# Altium footprint library CapCeramic.PcbLib: 13 footprints
Each footprint in its own frame and in the unit in brackets; x right, y up, seen from the top. Pads: shape width x height; smd on the part's side, far side on the other; paste and mask are expansions set on the pad; w line width, h text height; cw(c..) or ccw(c..) is an arc to the next point about the centre after c.
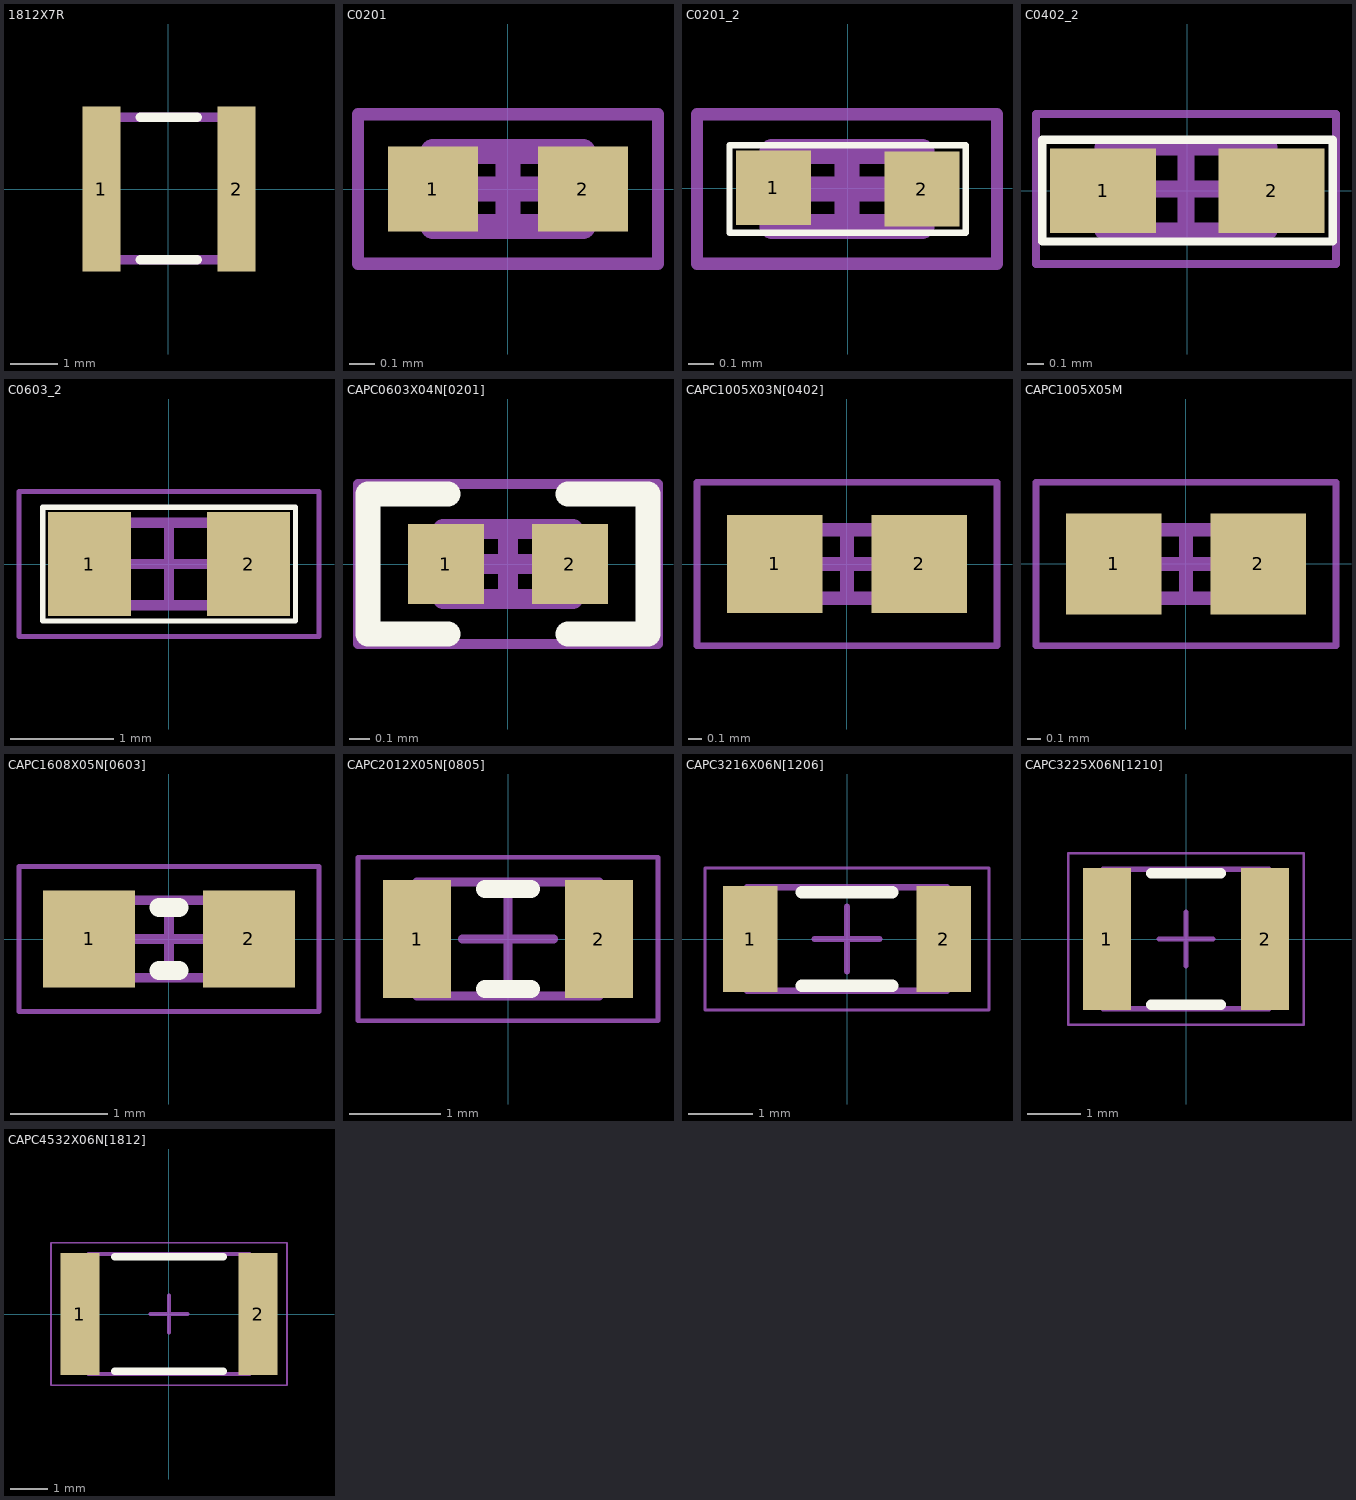
[diagram p0: the footprints below, top view; thin cyan lines are the x and y axes]

## 1812X7R [mil]
pads (2):
  rect 32x138 smd: 1(-56.1,0) 2(57,0)
Top Overlay:
  lines w8: -23.62,-59.06 24,-59.06 ; -23.62,60 24,60
Mechanical 16:
  rectangle: -55.12,-62.99 -43.31,63
  region: 56,63 44,63 44,-62.99 56,-62.99
  lines w8: -43.31,-59.06 44,-59.06 ; -43.31,60 44,60
3D body "CAPC3225X279N EIA 1210.step": height 49.21, standoff -49.21, extent -62.99,-55 62.99,54.84

## C0201 [mm]
pads (2):
  rect 0.36x0.34 smd: 1(-0.3,0) 2(0.3,0)
Mechanical 13:
  lines w0.1: -0.3,-0.15 -0.3,0.15 0.3,0.15 0.3,-0.15 -0.3,-0.15
Mechanical 15:
  lines w0.05: -0.6,-0.3 -0.6,0.3 0.6,0.3 0.6,-0.3 -0.6,-0.3
  lines w0.1: -0.15,0 0.15,0 ; 0,-0.15 0,0.15
3D body "CAPC0603X03L.step": height 0.3, standoff 0, extent -0.3,-0.15 0.3,0.15

## C0201_2 [mm]
pads (2):
  rect 0.3x0.3 smd: 1(-0.297,0.003) 2(0.297,-0.003)
Top Overlay:
  lines w0.025: -0.472,-0.178 0.472,-0.178 0.472,0.173 -0.472,0.173 -0.472,-0.178
Mechanical 13:
  lines w0.1: -0.303,-0.153 0.297,-0.153 0.297,0.147 -0.303,0.147 -0.303,-0.153
Mechanical 15:
  lines w0.05: -0.603,-0.303 0.597,-0.303 0.597,0.297 -0.603,0.297 -0.603,-0.303
  lines w0.1: -0.153,-0.003 0.147,-0.003 ; -0.003,-0.153 -0.003,0.147
3D body "CAPC0603X03L.step": height 0.3, standoff 0, extent -0.3,-0.15 0.3,0.15

## C0402_2 [mil]
pads (2):
  rect 25x20 smd: 1(-19.9,0) 2(19.9,0)
Top Overlay:
  lines w2: -34.3,-12 34.4,-12 34.4,12 -34.3,12 -34.3,-12
Mechanical 13:
  lines w3.94: -19.98,-9.44 19.39,-9.44 19.39,10.24 -19.98,10.24 -19.98,-9.44
Mechanical 15:
  lines w1.97: -35.73,-17.32 35.13,-17.32 35.13,18.12 -35.73,18.12 -35.73,-17.32
  lines w3.94: -10.14,0.4 9.54,0.4 ; -0.3,-9.44 -0.3,10.24
3D body: height 11.81, standoff 0, extent -11.81,-9.84 11.82,9.85
3D body: height 11.81, standoff 0, extent -19.68,-9.84 -11.81,9.85
3D body: height 11.81, standoff 0, extent 11.82,-9.84 19.69,9.85

## C0603_2 [mil]
pads (2):
  rect 31.5x39.4 smd: 1(-30.3,0) 2(30.3,0)
Top Overlay:
  lines w2: -48,-21.7 -48,21.6 48.1,21.6 48.1,-21.7 -48,-21.7
Mechanical 13:
  lines w3.94: -31.49,-15.75 31.5,-15.75 31.5,15.75 -31.49,15.75 -31.49,-15.75
Mechanical 15:
  lines w1.97: -57.09,-27.56 57.09,-27.56 57.09,27.56 -57.09,27.56 -57.09,-27.56
  lines w3.94: -15.75,0 15.75,0 ; 0,-15.75 0,15.75
3D body: height 17.72, standoff 0, extent 21.66,-15.75 31.5,15.75
3D body: height 17.72, standoff 0, extent -31.49,-15.75 -21.65,15.75
3D body: height 17.72, standoff 0, extent -21.65,-15.75 21.66,15.75

## CAPC0603X04N[0201] [mm] "Chip Capacitor, 2-Leads, Body 0,60x0,30mm, IPC Medium Density"
height 0.35
pads (2):
  rect 0.38x0.4 smd mask+0.05: 1(-0.31,0) 2(0.31,0)
Top Overlay:
  lines w0.127: -0.3,-0.35 -0.7,-0.35 -0.7,0.35 -0.3,0.35 ; 0.3,-0.35 0.7,-0.35 0.7,0.35 0.3,0.35
Mechanical 13:
  lines w0.1: -0.325,-0.175 0.325,-0.175 0.325,0.175 -0.325,0.175 -0.325,-0.175
Mechanical 15:
  lines w0.05: -0.75,-0.4 0.75,-0.4 0.75,0.4 -0.75,0.4 -0.75,-0.4
  lines w0.1: -0.175,0 0.175,0 ; 0,-0.175 0,0.175
3D body "CL03A104KP3NNNC.STEP": height 0.3, standoff 0, extent -0.3,-0.165 0.3,0.165

## CAPC1005X03N[0402] [mm] "Chip Capacitor 2-Leads, Body 1,00x0,50mm, IPC Medium Density"
height 0.3
pads (2):
  rect 0.7x0.72 smd: 1(-0.53,0) 2(0.53,0)
Mechanical 13:
  lines w0.1: -0.5,-0.25 0.5,-0.25 0.5,0.25 -0.5,0.25 -0.5,-0.25
Mechanical 15:
  lines w0.05: -1.1,-0.6 1.1,-0.6 1.1,0.6 -1.1,0.6 -1.1,-0.6
  lines w0.1: -0.25,0 0.25,0 ; 0,-0.25 0,0.25
3D body "CAPC1005X05M.step": height 0.5, standoff 0, extent -0.5,-0.25 0.5,0.25

## CAPC1005X05M [mm] "Chip Capacitor, 2-Leads, Body 1,00x0,50mm, IPC Low Density"
height 0.5
pads (2):
  rect 0.7x0.74 smd: 1(-0.53,0) 2(0.53,0)
Mechanical 13:
  lines w0.1: -0.5,-0.25 0.5,-0.25 0.5,0.25 -0.5,0.25 -0.5,-0.25
Mechanical 15:
  lines w0.05: -1.1,-0.6 1.1,-0.6 1.1,0.6 -1.1,0.6 -1.1,-0.6
  lines w0.1: -0.25,0 0.25,0 ; 0,-0.25 0,0.25
3D body "CAPC1005X05M.step": height 0.5, standoff 0, extent -0.5,-0.25 0.5,0.25

## CAPC1608X05N[0603] [mm] "Chip Capacitor, 2-Leads, Body 1,60x0,80mm, IPC Medium Density"
height 0.45
pads (2):
  rect 0.95x1 smd: 1(-0.825,0) 2(0.825,0)
Top Overlay:
  lines w0.2: -0.1,-0.325 0.1,-0.325 ; -0.1,0.325 0.1,0.325
Mechanical 13:
  lines w0.1: -0.8,-0.4 -0.8,0.4 0.8,0.4 0.8,-0.4 -0.8,-0.4
Mechanical 15:
  lines w0.05: -1.55,-0.75 -1.55,0.75 1.55,0.75 1.55,-0.75 -1.55,-0.75
  lines w0.1: -0.4,0 0.4,0 ; 0,-0.4 0,0.4
3D body "Ceramic_Capacitor_0603_h32mil.step": height 0.81, standoff 0.01, extent -0.8,-0.4 0.8,0.4

## CAPC2012X05N[0805] [mm] "Chip Capacitor 2-Leads, Body 2,00x1,25mm, IPC Medium Density"
height 0.5
pads (2):
  rect 0.75x1.3 smd: 1(-1,0) 2(1,0)
Top Overlay:
  lines w0.2: -0.25,-0.55 0.25,-0.55 ; -0.25,0.55 0.25,0.55
Mechanical 13:
  lines w0.1: -1,-0.625 -1,0.625 1,0.625 1,-0.625 -1,-0.625
Mechanical 15:
  lines w0.05: -1.65,-0.9 -1.65,0.9 1.65,0.9 1.65,-0.9 -1.65,-0.9
  lines w0.1: -0.5,0 0.5,0 ; 0,-0.5 0,0.5
3D body: height 0.5, standoff 0, extent -0.65,-0.625 0.65,0.625
3D body: height 0.5, standoff 0, extent -1,-0.625 -0.65,0.625
3D body: height 0.5, standoff 0, extent 0.65,-0.625 1,0.625

## CAPC3216X06N[1206] [mm] "Chip Capacitor 2-Leads, Body 3,10x1,60mm, IPC Medium Density"
height 0.55
pads (2):
  rect 0.85x1.65 smd: 1(-1.5,0) 2(1.5,0)
Top Overlay:
  lines w0.2: -0.7,-0.725 0.7,-0.725 ; -0.7,0.725 0.7,0.725
Mechanical 13:
  lines w0.1: -1.55,-0.8 -1.55,0.8 1.55,0.8 1.55,-0.8 -1.55,-0.8
Mechanical 15:
  lines w0.05: -2.2,-1.1 -2.2,1.1 2.2,1.1 2.2,-1.1 -2.2,-1.1
  lines w0.1: -0.5,0 0.5,0 ; 0,-0.5 0,0.5
3D body: height 0.55, standoff 0, extent -1.1,-0.8 1.1,0.8
3D body: height 0.55, standoff 0, extent -1.55,-0.8 -1.1,0.8
3D body: height 0.55, standoff 0, extent 1.1,-0.8 1.55,0.8

## CAPC3225X06N[1210] [mm] "Chip Capacitor, 2-Leads, Body 3,10x2,60mm, IPC Medium Density"
height 0.55
pads (2):
  rect 0.9x2.65 smd: 1(-1.475,0) 2(1.475,0)
Top Overlay:
  lines w0.2: -0.65,-1.225 0.65,-1.225 ; -0.65,1.225 0.65,1.225
Mechanical 13:
  lines w0.1: -1.55,-1.3 1.55,-1.3 1.55,1.3 -1.55,1.3 -1.55,-1.3
Mechanical 15:
  lines w0.05: -2.2,-1.6 2.2,-1.6 2.2,1.6 -2.2,1.6 -2.2,-1.6
  lines w0.1: -0.5,0 0.5,0 ; 0,-0.5 0,0.5
3D body: height 0.55, standoff 0, extent 1.05,-1.3 1.55,1.3
3D body: height 0.55, standoff 0, extent -1.55,-1.3 -1.05,1.3
3D body: height 0.55, standoff 0, extent -1.05,-1.3 1.05,1.3

## CAPC4532X06N[1812] [mm] "Chip Capacitor, 2-Leads, Body 4,50x3,20mm, IPC Medium Density"
height 0.55
pads (2):
  rect 1.05x3.25 smd: 1(-2.375,0) 2(2.375,0)
Top Overlay:
  lines w0.2: -1.45,-1.525 1.45,-1.525 ; -1.45,1.525 1.45,1.525
Mechanical 13:
  lines w0.1: -2.15,-1.6 2.15,-1.6 2.15,1.6 -2.15,1.6 -2.15,-1.6
Mechanical 15:
  lines w0.05: -3.15,-1.9 3.15,-1.9 3.15,1.9 -3.15,1.9 -3.15,-1.9
  lines w0.1: -0.5,0 0.5,0 ; 0,-0.5 0,0.5
3D body: height 0.55, standoff 0, extent 1.65,-1.6 2.15,1.6
3D body: height 0.55, standoff 0, extent -2.15,-1.6 -1.65,1.6
3D body: height 0.55, standoff 0, extent -1.65,-1.6 1.65,1.6